# Altium schematic symbol library 834M1.Schlib: 1 symbol
Pins are listed as number, name and electrical type; pins without a type are passive.

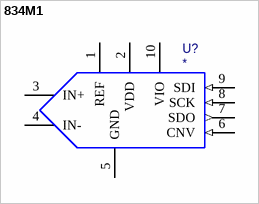
[diagram p0: symbol 834M1]

## 834M1
designator U?
pins: 1 REF, 2 VDD (power), 3 IN+, 4 IN-, 5 GND (power), 6 CNV (in), 7 SDO (out), 8 SCK (in), 9 SDI (in), 10 VIO (power)
1 alternate drawing of the same symbol